# EAGLE library part RPI-ZERO (library U-Pi)
Raspberry Pi Zero https://pinout.xyz/ NOTE: WiFi is needed see https://www.kickstarter.com/projects/1991736672/iot-hat-for-raspberry-pi-a-must-have-for-pi-zero
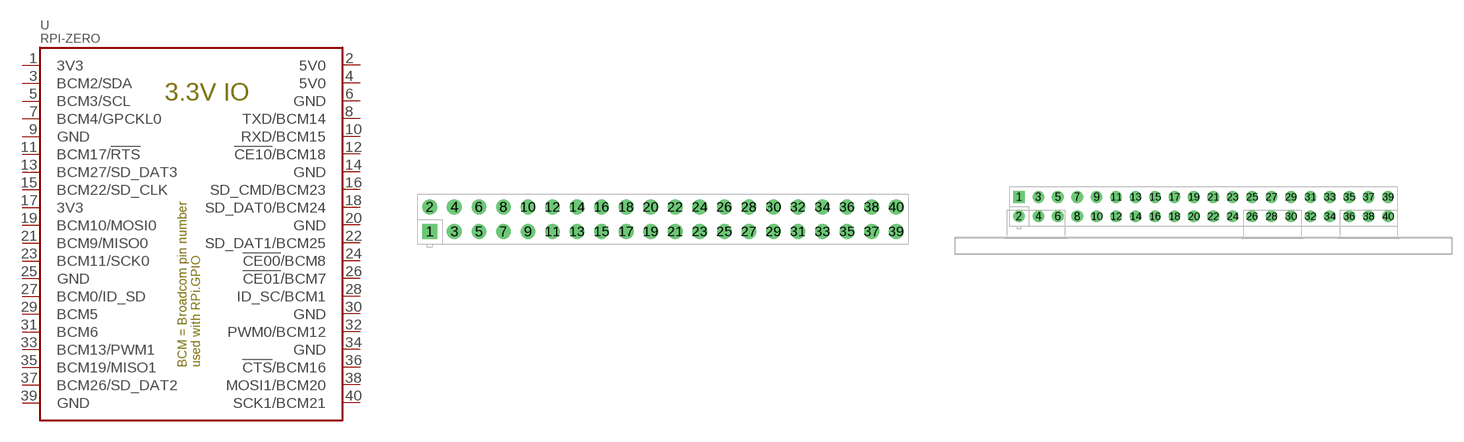
[diagram p0: symbol with the pads of RASPI_ZERO_H40PIN; footprints RASPI_ZERO_H40PIN, RASPI_ZERO_V40PIN]

Designator prefix U

## RPI-ZERO  [RASPI_ZERO_H40PIN]
1  3V3  sup
2  5V0  sup
3  BCM2/SDA
4  5V0  sup
5  BCM3/SCL
6  GND  sup
7  BCM4/GPCKL0
8  TXD/BCM14
9  GND  sup
10  RXD/BCM15
11  BCM17/!RTS!
12  !CE10!/BCM18
13  BCM27/SD_DAT3
14  GND  sup
15  BCM22/SD_CLK
16  SD_CMD/BCM23
17  3V3  sup
18  SD_DAT0/BCM24
19  BCM10/MOSI0
20  GND  sup
21  BCM9/MISO0
22  SD_DAT1/BCM25
23  BCM11/SCK0
24  !CE00!/BCM8
25  GND  sup
26  !CE01!/BCM7
27  BCM0/ID_SD
28  ID_SC/BCM1
29  BCM5
30  GND  sup
31  BCM6
32  PWM0/BCM12
33  BCM13/PWM1
34  GND  sup
35  BCM19/MISO1
36  !CTS!/BCM16
37  BCM26/SD_DAT2
38  MOSI1/BCM20
39  GND  sup
40  SCK1/BCM21

## RPI-ZERO90  [RASPI_ZERO_V40PIN]
Pads as for RASPI_ZERO_H40PIN

## Footprint RASPI_ZERO_H40PIN (pad centres in mm)
Raspberry Pi board model Zero, full outline with position of big connectors & 2.75mm drill holes
drill 1.016 square: 1 0,0
drill 1.016: 2 0,2.54; 3 2.54,0; 4 2.54,2.54; 5 5.08,0; 6 5.08,2.54; 7 7.62,0; 8 7.62,2.54; 9 10.16,0; 10 10.16,2.54; 11 12.7,0; 12 12.7,2.54; 13 15.24,0; 14 15.24,2.54; 15 17.78,0; 16 17.78,2.54; 17 20.32,0; 18 20.32,2.54; 19 22.86,0; 20 22.86,2.54; 21 25.4,0; 22 25.4,2.54; 23 27.94,0; 24 27.94,2.54; 25 30.48,0; 26 30.48,2.54; 27 33.02,0; 28 33.02,2.54; 29 35.56,0; 30 35.56,2.54; 31 38.1,0; 32 38.1,2.54; 33 40.64,0; 34 40.64,2.54; 35 43.18,0; 36 43.18,2.54; 37 45.72,0; 38 45.72,2.54; 39 48.26,0; 40 48.26,2.54

## Footprint RASPI_ZERO_V40PIN (pad centres in mm)
Raspberry Pi board model Zero, Vertical
drill 1.016 square: 1 0,2.54
drill 1.016: 2 0,0; 3 2.54,2.54; 4 2.54,0; 5 5.08,2.54; 6 5.08,0; 7 7.62,2.54; 8 7.62,0; 9 10.16,2.54; 10 10.16,0; 11 12.7,2.54; 12 12.7,0; 13 15.24,2.54; 14 15.24,0; 15 17.78,2.54; 16 17.78,0; 17 20.32,2.54; 18 20.32,0; 19 22.86,2.54; 20 22.86,0; 21 25.4,2.54; 22 25.4,0; 23 27.94,2.54; 24 27.94,0; 25 30.48,2.54; 26 30.48,0; 27 33.02,2.54; 28 33.02,0; 29 35.56,2.54; 30 35.56,0; 31 38.1,2.54; 32 38.1,0; 33 40.64,2.54; 34 40.64,0; 35 43.18,2.54; 36 43.18,0; 37 45.72,2.54; 38 45.72,0; 39 48.26,2.54; 40 48.26,0